# Altium footprint library Res_Vishay_CRCW08050000Z0EA_eec_IPC_A.PcbLib: 1 footprints
Each footprint in its own frame and in the unit in brackets; x right, y up, seen from the top. Pads: shape width x height; smd on the part's side, far side on the other; paste and mask are expansions set on the pad; w line width, h text height; cw(c..) or ccw(c..) is an arc to the next point about the centre after c.
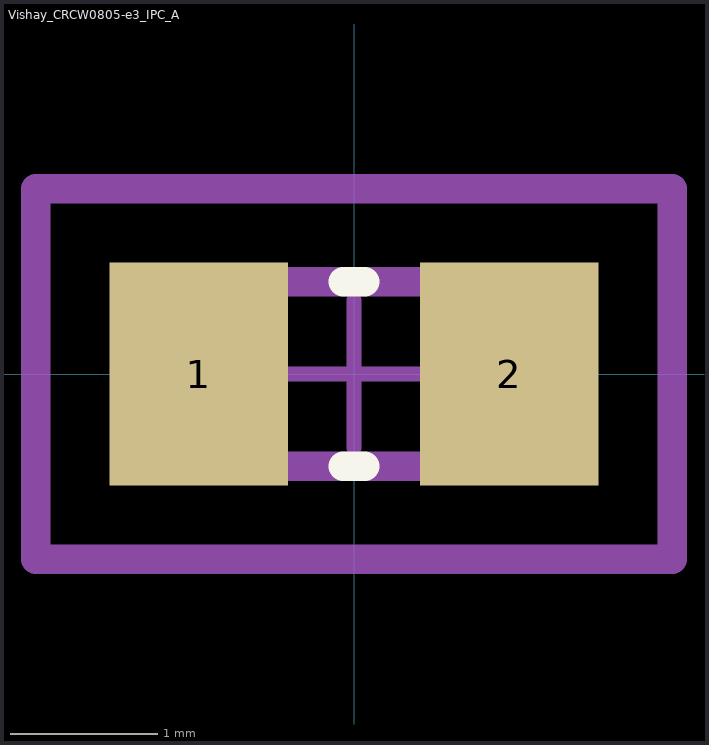
[diagram p0: the footprint, top view; thin cyan lines are the x and y axes]

## Vishay_CRCW0805-e3_IPC_A [mil]
pads (2):
  rect 47.5x59.38 smd paste+0 mask+0: 1(-41.37,0) 2(41.37,0)
Top Overlay:
  lines w7.87: -2.86,-24.61 2.86,-24.61 ; -2.86,24.61 2.86,24.61
Mechanical 10:
  lines w7.87: -84.81,-49.37 84.81,-49.37 84.81,49.37 -84.81,49.37 -84.81,-49.37
  text ".Designator" at 0,7.41 h39.37
Mechanical 12:
  lines w7.87: -39.37,-24.61 39.37,-24.61 39.37,24.61 -39.37,24.61 -39.37,-24.61
Mechanical 15:
  lines w3.94: -19.68,0 19.68,0 ; 0,-19.68 0,19.68
  lines w7.87: -84.81,-49.37 84.81,-49.37 84.81,49.37 -84.81,49.37 -84.81,-49.37
3D body "Res_Vishay_CRCW08050000Z0EA_eec.STEP": height 10, standoff 0, extent -84.81,-49.37 84.81,49.37